# Altium schematic symbol library Switches.SchLib: 1 symbol
Pins are listed as number, name and electrical type; pins without a type are passive.

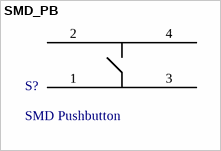
[diagram p0: symbol SMD_PB]

## SMD_PB
designator S?, comment SMD Pushbutton
pins: 1, 2, 3, 4